# Altium footprint library swicth.PcbLib: 82 footprints (part 5 of 6)
Each footprint in its own frame and in the unit in brackets; x right, y up, seen from the top. Pads: shape width x height; smd on the part's side, far side on the other; paste and mask are expansions set on the pad; w line width, h text height; cw(c..) or ccw(c..) is an arc to the next point about the centre after c.
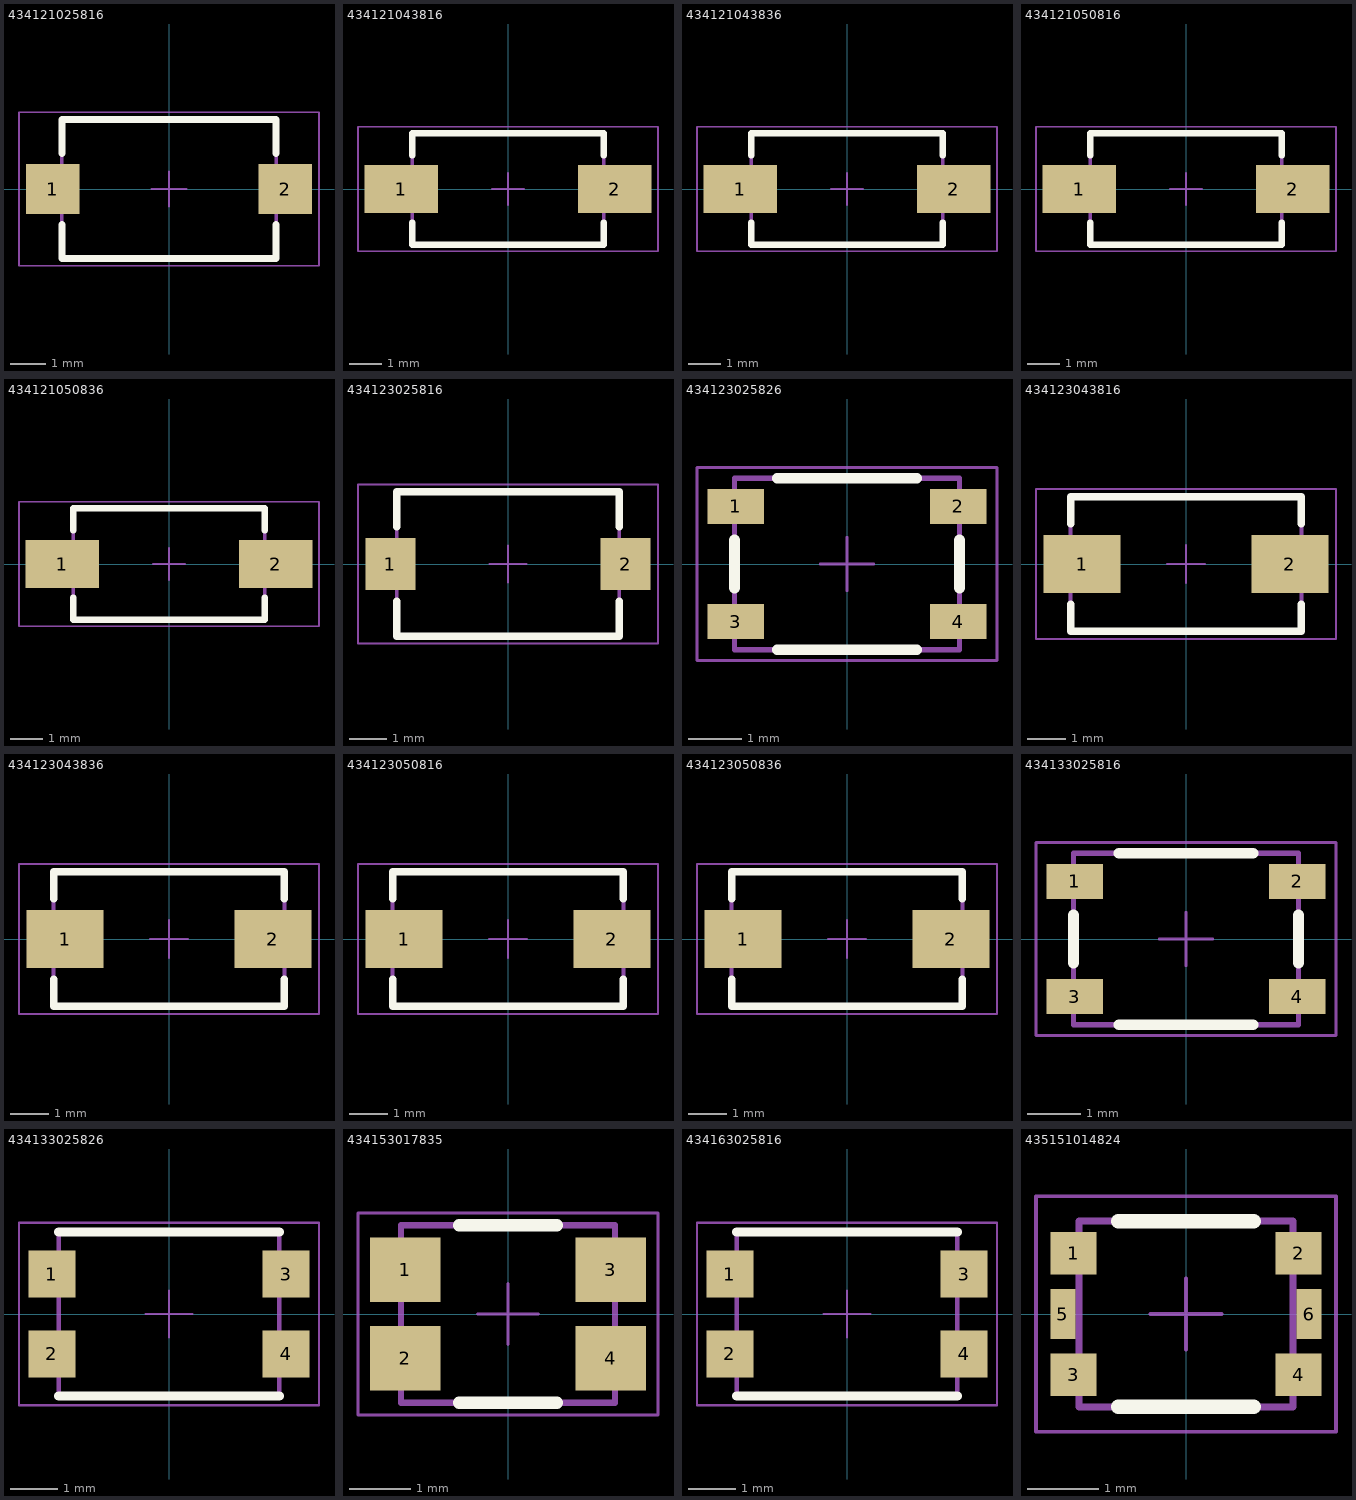
[diagram p4: the footprints below, top view; thin cyan lines are the x and y axes]

## 434121025816 [mm] "SMD Tact Switch, body 6x3.8mm"
height 2.5
pads (2):
  rect 1.5x1.4 smd: 1(-3.25,0) 2(3.25,0)
Top Overlay:
  lines w0.2: -3,-1 -3,-1.95 3,-1.95 3,-1 ; -3,1 -3,1.95 3,1.95 3,1
Mechanical 13:
  lines w0.1: -3,-0.5 -3.65,-0.5 -3.65,0.5 -3,0.5 ; 3,-0.5 3.65,-0.5 3.65,0.5 3,0.5 ; -3,-1.95 3,-1.95 3,1.95 -3,1.95 -3,-1.95
Mechanical 15:
  lines w0.05: -0.5,0 0.5,0 ; 0,-0.5 0,0.5 ; -4.2,-2.15 -4.2,2.15 4.2,2.15 4.2,-2.15 -4.2,-2.15
3D body "4341x10258xx.stp": height 2.5, standoff 0, extent -3.65,-1.95 3.65,1.95

## 434121043816 [mm] "SMD Tact Switch, body 6x3.5mm"
height 4.3
pads (2):
  rect 2.3x1.5 smd: 1(-3.35,0) 2(3.35,0)
Top Overlay:
  lines w0.2: -3,-1.05 -3,-1.75 3,-1.75 3,-1.05 ; -3,1.05 -3,1.75 3,1.75 3,1.05
Mechanical 13:
  lines w0.1: -3,-0.5 -4,-0.5 -4,0.5 -3,0.5 ; 3,-0.5 4,-0.5 4,0.5 3,0.5 ; -3,-1.75 -3,1.75 3,1.75 3,-1.75 -3,-1.75
Mechanical 15:
  lines w0.05: -0.5,0 0.5,0 ; 0,-0.5 0,0.5 ; -4.7,-1.95 -4.7,1.95 4.7,1.95 4.7,-1.95 -4.7,-1.95
3D body "4341x10438x6.stp": height 4.3, standoff 0, extent -4,-1.75 4,1.75

## 434121043836 [mm] "SMD Tact Switch, body 6x3.5mm"
height 4.3
pads (2):
  rect 2.3x1.5 smd: 1(-3.35,0) 2(3.35,0)
Top Overlay:
  lines w0.2: -3,-1.05 -3,-1.75 3,-1.75 3,-1.05 ; -3,1.05 -3,1.75 3,1.75 3,1.05
Mechanical 13:
  lines w0.1: -3,-0.5 -4,-0.5 -4,0.5 -3,0.5 ; 3,-0.5 4,-0.5 4,0.5 3,0.5 ; -3,-1.75 -3,1.75 3,1.75 3,-1.75 -3,-1.75
Mechanical 15:
  lines w0.05: -0.5,0 0.5,0 ; 0,-0.5 0,0.5 ; -4.7,-1.95 -4.7,1.95 4.7,1.95 4.7,-1.95 -4.7,-1.95
3D body "4341x10438x6.stp": height 4.3, standoff 0, extent -4,-1.75 4,1.75

## 434121050816 [mm] "SMD Tact Switch, body 6x3.5mm"
height 5
pads (2):
  rect 2.3x1.5 smd: 1(-3.35,0) 2(3.35,0)
Top Overlay:
  lines w0.2: -3,-1.05 -3,-1.75 3,-1.75 3,-1.05 ; -3,1.05 -3,1.75 3,1.75 3,1.05
Mechanical 13:
  lines w0.1: -3,-0.5 -4,-0.5 -4,0.5 -3,0.5 ; 3,-0.5 4,-0.5 4,0.5 3,0.5 ; -3,-1.75 -3,1.75 3,1.75 3,-1.75 -3,-1.75
Mechanical 15:
  lines w0.05: -0.5,0 0.5,0 ; 0,-0.5 0,0.5 ; -4.7,-1.95 -4.7,1.95 4.7,1.95 4.7,-1.95 -4.7,-1.95
3D body "4341x10508x6.stp": height 5, standoff 0, extent -4,-1.75 4,1.75

## 434121050836 [mm] "SMD Tact Switch, body 6x3.5mm"
height 5
pads (2):
  rect 2.3x1.5 smd: 1(-3.35,0) 2(3.35,0)
Top Overlay:
  lines w0.2: -3,-1.05 -3,-1.75 3,-1.75 3,-1.05 ; -3,1.05 -3,1.75 3,1.75 3,1.05
Mechanical 13:
  lines w0.1: -3,-0.5 -4,-0.5 -4,0.5 -3,0.5 ; 3,-0.5 4,-0.5 4,0.5 3,0.5 ; -3,-1.75 3,-1.75 3,1.75 -3,1.75 -3,-1.75
Mechanical 15:
  lines w0.05: -0.5,0 0.5,0 ; 0,-0.5 0,0.5 ; -4.7,-1.95 4.7,-1.95 4.7,1.95 -4.7,1.95 -4.7,-1.95
3D body "4341x10508x6.stp": height 5, standoff 0, extent -4,-1.75 4,1.75

## 434123025816 [mm] "SMD Tact Switch, body 6x3.8mm"
height 2.5
pads (2):
  rect 1.35x1.4 smd: 1(-3.175,0) 2(3.175,0)
Top Overlay:
  lines w0.2: -3,-1 -3,-1.95 3,-1.95 3,-1 ; -3,1 -3,1.95 3,1.95 3,1
Mechanical 13:
  lines w0.1: -3,-1.95 -3,1.95 3,1.95 3,-1.95 -3,-1.95
Mechanical 15:
  lines w0.05: -0.5,0 0.5,0 ; 0,-0.5 0,0.5 ; -4.05,-2.15 -4.05,2.15 4.05,2.15 4.05,-2.15 -4.05,-2.15
3D body "4341x30258xx.stp": height 2.5, standoff 0, extent -3.5,-1.95 3.5,1.95

## 434123025826 [mm] "Tact Switch, SMD, body 4.2x3.2mm"
height 2.5
pads (4):
  rect 1.05x0.65 smd: 1(-2.075,1.075) 2(2.075,1.075) 3(-2.075,-1.075) 4(2.075,-1.075)
Top Overlay:
  lines w0.2: -2.1,-0.45 -2.1,0.45 ; -1.3,-1.6 1.3,-1.6 ; -1.3,1.6 1.3,1.6 ; 2.1,-0.45 2.1,0.45
Mechanical 13:
  lines w0.1: -2.1,-1.6 2.1,-1.6 2.1,1.6 -2.1,1.6 -2.1,-1.6
Mechanical 15:
  lines w0.05: -0.5,0 0.5,0 ; 0,-0.5 0,0.5 ; -2.8,-1.8 2.8,-1.8 2.8,1.8 -2.8,1.8 -2.8,-1.8
3D body "4341x30258x6.stp": height 2.5, standoff 0, extent -2.299,-1.6 2.299,1.6

## 434123043816 [mm] "SMD Tact Switch, body 6x3.5mm"
height 4.3
pads (2):
  rect 2x1.5 smd: 1(-2.7,0) 2(2.7,0)
Top Overlay:
  lines w0.2: -3,-1.05 -3,-1.75 3,-1.75 3,-1.05 ; -3,1.05 -3,1.75 3,1.75 3,1.05
Mechanical 13:
  lines w0.1: -3,-1.75 -3,1.75 3,1.75 3,-1.75 -3,-1.75
Mechanical 15:
  lines w0.05: -0.5,0 0.5,0 ; 0,-0.5 0,0.5 ; -3.9,-1.95 3.9,-1.95 3.9,1.95 -3.9,1.95 -3.9,-1.95
3D body "4341x30438x6.stp": height 4.3, standoff 0, extent -3.649,-1.75 3.65,1.75

## 434123043836 [mm] "SMD Tact Switch, body 6x3.5mm"
height 4.3
pads (2):
  rect 2x1.5 smd: 1(-2.7,0) 2(2.7,0)
Top Overlay:
  lines w0.2: -3,-1.05 -3,-1.75 3,-1.75 3,-1.05 ; -3,1.05 -3,1.75 3,1.75 3,1.05
Mechanical 13:
  lines w0.1: -3,-1.75 3,-1.75 3,1.75 -3,1.75 -3,-1.75
Mechanical 15:
  lines w0.05: -0.5,0 0.5,0 ; 0,-0.5 0,0.5 ; -3.9,-1.95 -3.9,1.95 3.9,1.95 3.9,-1.95 -3.9,-1.95
3D body "4341x30438x6.stp": height 4.3, standoff 0, extent -3.649,-1.75 3.65,1.75

## 434123050816 [mm] "SMD Tact Switch, body 6x3.5mm"
height 5
pads (2):
  rect 2x1.5 smd: 1(-2.7,0) 2(2.7,0)
Top Overlay:
  lines w0.2: -3,-1.05 -3,-1.75 3,-1.75 3,-1.05 ; -3,1.05 -3,1.75 3,1.75 3,1.05
Mechanical 13:
  lines w0.1: -3,-1.75 3,-1.75 3,1.75 -3,1.75 -3,-1.75
Mechanical 15:
  lines w0.05: -0.5,0 0.5,0 ; 0,-0.5 0,0.5 ; -3.9,-1.95 -3.9,1.95 3.9,1.95 3.9,-1.95 -3.9,-1.95
3D body "4341x30508x6.stp": height 5, standoff 0, extent -3.649,-1.75 3.65,1.75

## 434123050836 [mm] "SMD Tact Switch, body 6x3.5mm"
height 5
pads (2):
  rect 2x1.5 smd: 1(-2.7,0) 2(2.7,0)
Top Overlay:
  lines w0.2: -3,-1.05 -3,-1.75 3,-1.75 3,-1.05 ; -3,1.05 -3,1.75 3,1.75 3,1.05
Mechanical 13:
  lines w0.1: -3,-1.75 -3,1.75 3,1.75 3,-1.75 -3,-1.75
Mechanical 15:
  lines w0.05: -0.5,0 0.5,0 ; 0,-0.5 0,0.5 ; -3.9,-1.95 3.9,-1.95 3.9,1.95 -3.9,1.95 -3.9,-1.95
3D body "4341x30508x6.stp": height 5, standoff 0, extent -3.649,-1.75 3.65,1.75

## 434133025816 [mm] "Tact Switch, SMD, body 4.2x3.2mm"
height 2.5
pads (4):
  rect 1.05x0.65 smd: 1(-2.075,1.075) 2(2.075,1.075) 3(-2.075,-1.075) 4(2.075,-1.075)
Top Overlay:
  lines w0.2: -2.1,-0.45 -2.1,0.45 ; -1.25,-1.6 1.25,-1.6 ; -1.25,1.6 1.25,1.6 ; 2.1,-0.45 2.1,0.45
Mechanical 13:
  lines w0.1: -2.1,-1.6 -2.1,1.6 2.1,1.6 2.1,-1.6 -2.1,-1.6
Mechanical 15:
  lines w0.05: -0.5,0 0.5,0 ; 0,-0.5 0,0.5 ; -2.8,-1.8 2.8,-1.8 2.8,1.8 -2.8,1.8 -2.8,-1.8
3D body "4341x30258x6.stp": height 2.5, standoff 0, extent -2.299,-1.6 2.299,1.6

## 434133025826 [mm] "Tact Switch, SMD, body 4.7x3.5mm"
height 2.5
pads (4):
  rect 1x1 smd: 1(-2.5,0.85) 2(-2.5,-0.85) 3(2.5,0.85) 4(2.5,-0.85)
Top Overlay:
  lines w0.2: -2.35,-1.75 2.35,-1.75 ; -2.35,1.75 2.35,1.75
Mechanical 13:
  lines w0.1: -2.35,-1.75 -2.35,1.75 2.35,1.75 2.35,-1.75 -2.35,-1.75
Mechanical 15:
  lines w0.05: -0.5,0 0.5,0 ; 0,-0.5 0,0.5 ; -3.2,-1.95 -3.2,1.95 3.2,1.95 3.2,-1.95 -3.2,-1.95
3D body "4341x30258x6.stp": height 2.55, standoff 0, extent -2.753,-1.75 2.753,1.75

## 434153017835 [mm] "Tact Switch, SMD, body 3.5x2.9mm"
height 1.7
pads (4):
  rect 1.15x1.05 smd: 1(-1.675,0.725) 2(-1.675,-0.725) 3(1.675,0.725) 4(1.675,-0.725)
Top Overlay:
  lines w0.2: -0.8,-1.45 0.8,-1.45 ; -0.8,1.45 0.8,1.45
Mechanical 13:
  lines w0.1: -1.75,-1.45 1.75,-1.45 1.75,1.45 -1.75,1.45 -1.75,-1.45
Mechanical 15:
  lines w0.05: -0.5,0 0.5,0 ; 0,-0.5 0,0.5 ; -2.45,-1.65 2.45,-1.65 2.45,1.65 -2.45,1.65 -2.45,-1.65
3D body "434153017835.stp": height 1.7, standoff 0, extent -2.147,-1.45 2.147,1.45

## 434163025816 [mm] "Tact Switch, SMD, body 4.7x3.5mm"
height 2.5
pads (4):
  rect 1x1 smd: 1(-2.5,0.85) 2(-2.5,-0.85) 3(2.5,0.85) 4(2.5,-0.85)
Top Overlay:
  lines w0.2: -2.35,-1.75 2.35,-1.75 ; -2.35,1.75 2.35,1.75
Mechanical 13:
  lines w0.1: -2.35,-1.75 2.35,-1.75 2.35,1.75 -2.35,1.75 -2.35,-1.75
Mechanical 15:
  lines w0.05: -0.5,0 0.5,0 ; 0,-0.5 0,0.5 ; -3.2,-1.95 3.2,-1.95 3.2,1.95 -3.2,1.95 -3.2,-1.95
3D body "4341x30258x6.stp": height 2.55, standoff 0, extent -2.753,-1.75 2.753,1.75

## 435151014824 [mm] "SMD Tact Switch, body 3x2.6mm"
height 1.4
pads (6):
  rect 0.65x0.6 smd: 1(-1.575,0.85) 2(1.575,0.85) 3(-1.575,-0.85) 4(1.575,-0.85)
  rect 0.35x0.7 smd: 5(-1.725,0) 6(1.725,0)
Top Overlay:
  lines w0.2: -0.95,-1.3 0.95,-1.3 ; -0.95,1.3 0.95,1.3
Mechanical 13:
  lines w0.1: -1.5,-1.3 1.5,-1.3 1.5,1.3 -1.5,1.3 -1.5,-1.3
Mechanical 15:
  lines w0.05: -0.5,0 0.5,0 ; 0,-0.5 0,0.5 ; -2.1,-1.65 2.1,-1.65 2.1,1.65 -2.1,1.65 -2.1,-1.65
3D body "4351x10148xx.stp": height 1.43, standoff 0.02, extent -1.75,-1.3 1.75,1.3